# Altium footprint library transistor.PcbLib: 27 footprints (part 1 of 2)
Each footprint in its own frame and in the unit in brackets; x right, y up, seen from the top. Pads: shape width x height; smd on the part's side, far side on the other; paste and mask are expansions set on the pad; w line width, h text height; cw(c..) or ccw(c..) is an arc to the next point about the centre after c.
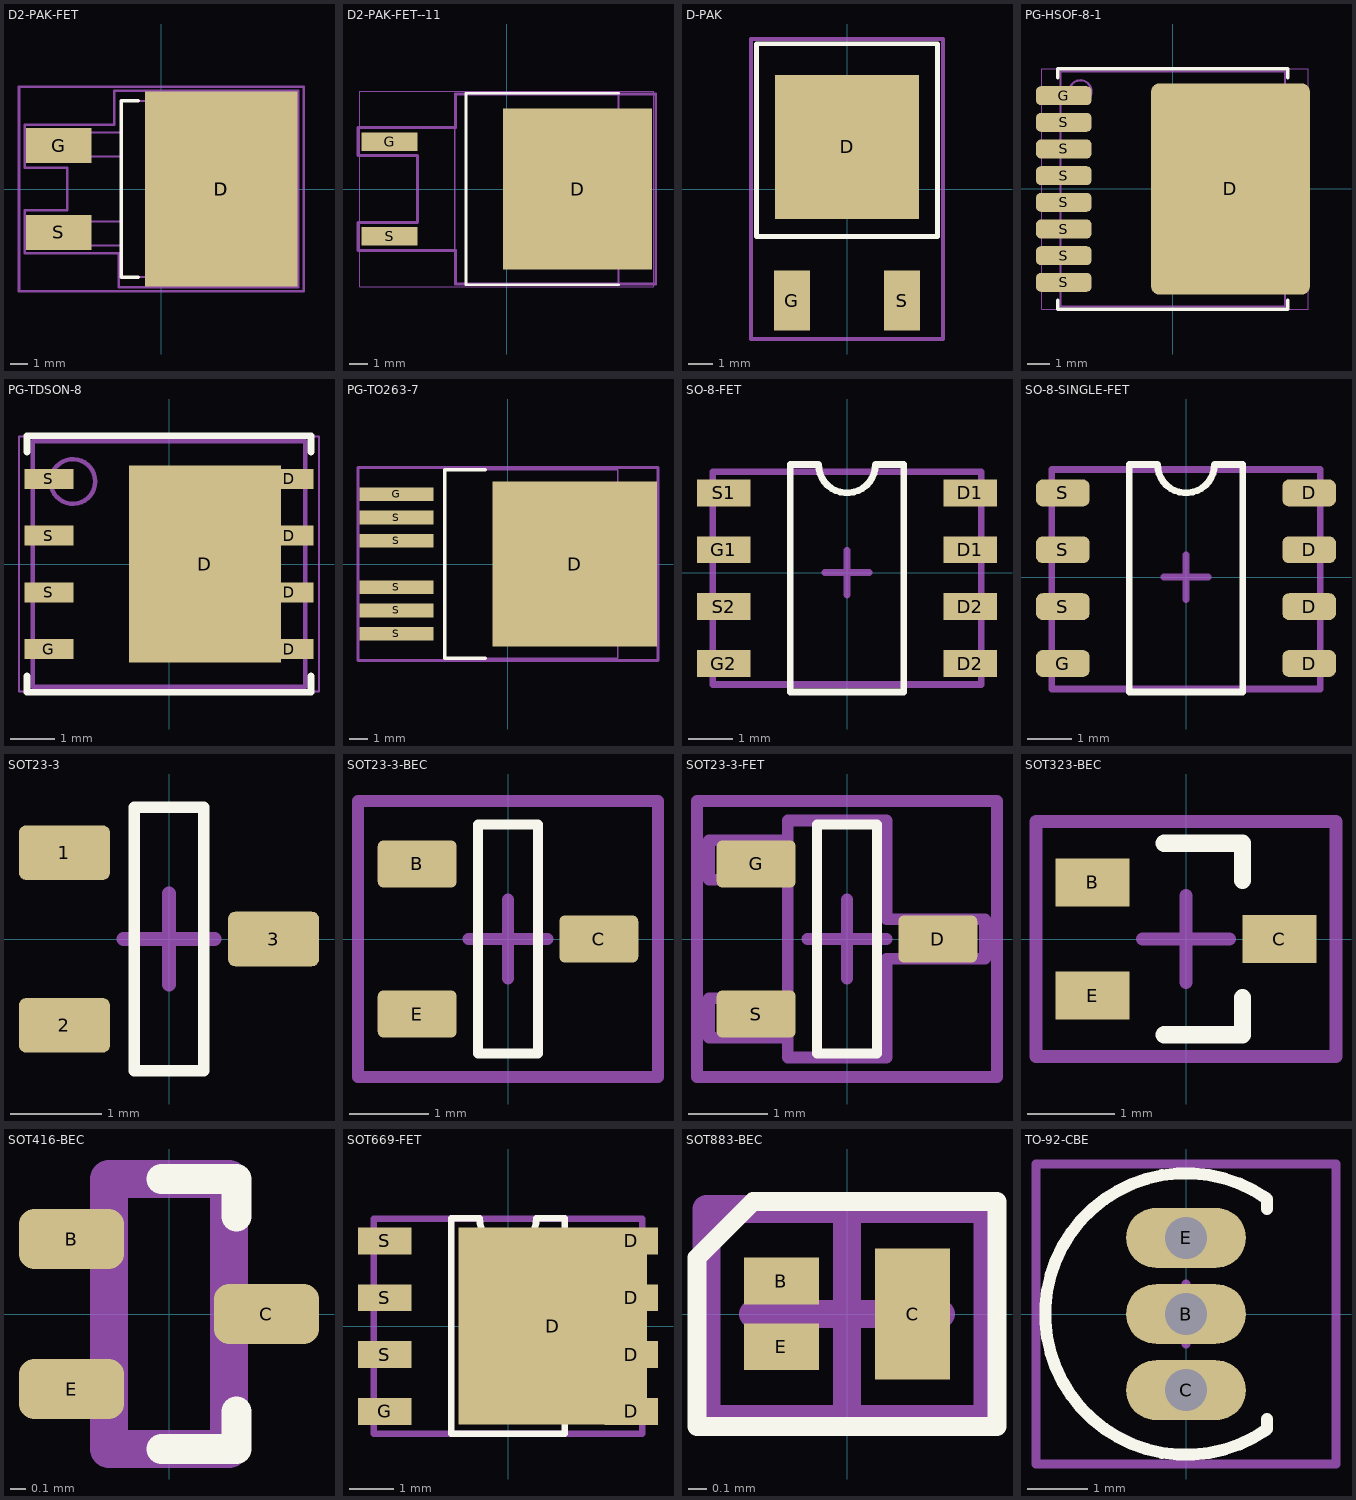
[diagram p0: the footprints below, top view; thin cyan lines are the x and y axes]

## D2-PAK-FET [mm] "D2-PAK, 3-Pads, Body 7,55x8,52mm (max), IPC Medium Density"
height 4.67
pads (4):
  rect 7x7 smd: D(3.5,0)
  rect 8.9x11.43 smd mask-15: D(3.5,0)
  rect 3.81x2.03 smd: G(-6,2.54) S(-6,-2.54)
Top Overlay:
  lines w0.2: -1.35,-5.15 -2.35,-5.15 -2.35,5.15 -1.35,5.15
  text "." at -6.85,4.8 h0.1
Top Solder:
  region: 7.5,5 4.25,5 4.25,0.75 7.5,0.75
  rectangle: -0.5,-5 2.75,-0.75
  region: 7.5,-0.75 4.25,-0.75 4.25,-5 7.5,-5
  rectangle: -0.5,0.75 2.75,5
Top Courtyard:
  lines w0.15: -8,-3.75 -8,-1.25 -5.5,-1.25 -5.5,1.25 -8,1.25 -8,3.75 -2.75,3.75 -2.75,5.75 8,5.75 8,-5.75 -2.5,-5.75 -2.5,-3.75 -8,-3.75
Mechanical 15:
  lines w0.15: -0.5,0 0.5,0 ; 0,-0.5 0,0.5 ; -8.325,-5.975 -8.325,5.975 8.325,5.975 8.325,-5.975 -8.325,-5.975
Mechanical 29:
  lines w0.1: -2.35,-3.3 -6.9,-3.3 -6.9,-3 -6.9,-1.9 -2.35,-1.9 ; -2.35,1.9 -6.9,1.9 -6.9,2.2 -6.9,3.3 -2.35,3.3 ; -2.35,-5.15 6.55,-5.15 6.55,5.15 -2.35,5.15 -2.35,-5.15
  text ".Designator" at -1.25,-0.3 h1
3D body "D2-PAK.step": height 4.82, standoff 0, extent -7.405,-5.15 7.845,5.15

## D2-PAK-FET--11 [mm]
height 4.4
pads (3):
  rect 8x8.65 smd: D(3.8,0)
  rect 3x1 smd: G(-6.3,2.54) S(-6.3,-2.54)
Top Overlay:
  lines w0.15: 6,-5.15 -2.2,-5.15 -2.2,5.15 6,5.15
  text "." at -6.959,3.841 h0.1
Top Courtyard:
  lines w0.05: -7.9,-5.25 -7.9,5.25 7.9,5.25 7.9,-5.25 -7.9,-5.25
  lines w0.15: -8,-3.3 -8,-1.8 -4.8,-1.8 -4.8,1.8 -8,1.8 -8,3.3 -2.75,3.3 -2.75,5.1 8,5.1 8,-5.1 -2.75,-5.1 -2.75,-3.3 -8,-3.3
Mechanical 13:
  lines w0.1: -2.8,-5.15 -2.8,5.15 6,5.15 6,-5.15 -2.8,-5.15
3D body "TO228P970-3N.step": height 4.41, standoff 0, extent -7.2,-5.15 7.7,5.15

## D-PAK [mm]
pads (3):
  rect 6x6 smd: D(0,1.75)
  rect 1.5x2.5 smd: G(-2.3,-4.65) S(2.3,-4.65)
Top Overlay:
  lines w0.2: -3.775,-1.975 0,-1.975 3.775,-1.975 3.775,6.05 -3.775,6.05 -3.775,-1.975
  text "." at -3.6,-4.7 h0.1
Top Solder:
  rectangle: -3,2 -0.25,4.75
  rectangle: 0.25,2 3,4.75
  region: -0.25,1.5 -3,1.5 -3,-1.25 -0.25,-1.25
  region: 0.25,1.5 0.25,-1.25 3,-1.25 3,1.5
Mechanical 15:
  lines w0.15: -0.5,0 0.5,0 ; 0,-0.5 0,0.5 ; -4,-6.25 -4,6.25 4,6.25 4,-6.25 -4,-6.25
3D body "D-PAK.STEP": height 2.3, standoff 0, extent -3.222,-4.875 3.272,4.625

## PG-HSOF-8-1 [mm] "HSOF, 8 Leads, Body 10,43x9,90mm, Pitch 1,20mm, IPC High Density"
height 2.4
pads (9):
  rrect10% 7.15x9.5 smd: D(2.6,0)
  rrect50% 2.5x0.85 smd: G(-4.9,4.2) S(-4.9,-4.2) S(-4.9,-3) S(-4.9,-1.8) S(-4.9,-0.6) S(-4.9,0.6) S(-4.9,1.8) S(-4.9,3)
Top Overlay:
  lines w0.15: -5.175,-5 -5.175,-5.415 5.175,-5.415 5.175,-5 ; -5.175,5 -5.175,5.415 5.175,5.415 5.175,5
  text "." at -5.9,5.415 h0.1
Top Courtyard:
  lines w0.05: -5.9,-5.4 -5.9,5.4 6.1,5.4 6.1,-5.4 -5.9,-5.4
  lines w0.1: -0.5,0 0.5,0 ; 0,-0.5 0,0.5
Mechanical 13:
  circle w0.1: c-4.15,4.39 r0.5
  lines w0.1: -5.05,-5.29 -5.05,5.29 5.05,5.29 5.05,-5.29 -5.05,-5.29
3D body "PG-HSOF-8-1.step": height 2.4, standoff 0, extent -5.06,-5.29 5.06,5.29

## PG-TDSON-8 [mm] "SON, 8-Leads, Body 5,32x5,90mm, Pitch 1,27mm, IPC High Density"
height 1.1
pads (9):
  rect 3.4x4.4 smd: D(0.8,0)
  rect 1.1x0.45 smd: D(2.685,-1.905) D(2.685,-0.635) D(2.685,0.635) D(2.685,1.905) G(-2.685,-1.905) S(-2.685,-0.635) S(-2.685,0.635) S(-2.685,1.905)
Top Overlay:
  lines w0.15: -3.175,-2.505 -3.175,-2.87 3.175,-2.87 3.175,-2.505 ; -3.175,2.505 -3.175,2.87 3.175,2.87 3.175,2.505
  text "." at -3.7,2.6 h0.1
Top Courtyard:
  lines w0.05: -3.355,-2.85 3.355,-2.85 3.355,2.85 -3.355,2.85 -3.355,-2.85
  lines w0.1: -0.5,0 0.5,0 ; 0,-0.5 0,0.5
Mechanical 13:
  circle w0.1: c-2.15,1.845 r0.5
  lines w0.1: -3.05,-2.745 3.05,-2.745 3.05,2.745 -3.05,2.745 -3.05,-2.745
3D body "PG-TDSON-8.step": height 1.1, standoff 0, extent -3.051,-2.745 3.051,2.745

## PG-TO263-7 [mm]
height 4.6
pads (7):
  rect 9x9 smd: D(3.65,0)
  rect 4.05x0.75 smd: G(-6.1,3.81) S(-6.1,-3.81) S(-6.1,-2.54) S(-6.1,-1.27) S(-6.1,1.27) S(-6.1,2.54)
Top Overlay:
  lines w0.2: -1.25,-5.15 -3.45,-5.15 -3.45,5.15 -1.25,5.15
  text "." at -6.5,5 h0.1
Mechanical 13:
  lines w0.1: -3.45,-5.15 -3.45,5.15 6,5.15 6,-5.15 -3.45,-5.15
Mechanical 15:
  lines w0.15: -0.5,0 0.5,0 ; 0,-0.5 0,0.5 ; -8.2,-5.275 -8.2,5.275 8.2,5.275 8.2,-5.275 -8.2,-5.275
3D body "TO228P970-3N.step": height 4.85, standoff 0, extent -7.695,-5.15 7.55,5.15

## SO-8-FET [mm]
pads (8):
  rect 1.2x0.6 smd: D1(2.75,0.508) D1(2.75,1.778) D2(2.75,-2.032) D2(2.75,-0.762) G1(-2.75,0.508) G2(-2.75,-2.032) S1(-2.75,1.778) S2(-2.75,-0.762)
Top Overlay:
  lines w0.15: -1.27,-2.667 -1.27,2.413 -0.635,2.413 ccw(c0,2.413) 0.635,2.413 1.27,2.413 1.27,-2.667 -1.27,-2.667
  text "." at -3.144,2.578 h0.1
Top Courtyard:
  lines w0.15: -0.5,0 0.5,0 ; 0,-0.5 0,0.5 ; -3,-2.5 -3,2.25 3,2.25 3,-2.5 -3,-2.5
3D body "User Library-so8-4.STEP": height 1.76, standoff 0, extent -3.068,-2.572 3.069,2.318

## SO-8-SINGLE-FET [mm]
pads (8):
  rrect50% 1.2x0.6 smd: D(2.75,-1.932) D(2.75,-0.662) D(2.75,0.608) D(2.75,1.878) G(-2.75,-1.932) S(-2.75,-0.662) S(-2.75,0.608) S(-2.75,1.878)
Top Overlay:
  lines w0.15: -1.27,-2.567 1.27,-2.567 1.27,2.513 0.635,2.513 cw(c0,2.513) -0.635,2.513 -1.27,2.513 -1.27,-2.567
  text "." at -3.35,2.678 h0.1
Top Courtyard:
  lines w0.15: -0.5,0 0.5,0 ; 0,-0.5 0,0.5 ; -3,-2.5 3,-2.5 3,2.4 -3,2.4 -3,-2.5
3D body "User Library-so8-4.STEP": height 1.76, standoff 0, extent -3.068,-2.472 3.069,2.418

## SOT23-3 [mm]
pads (3):
  rrect25% 1x0.6 smd: 1(-1.15,0.95) 2(-1.15,-0.95) 3(1.15,0)
Top Overlay:
  lines w0.127: -0.381,-1.45 0.381,-1.45 0.381,1.45 -0.381,1.45 -0.381,-1.45
Mechanical 15:
  lines w0.15: -0.5,0 0.5,0 ; 0,-0.5 0,0.5
3D body "SOT23-3.STEP": height 1.29, standoff -0.01, extent -1.4,-1.45 1.4,1.45

## SOT23-3-BEC [mm] "SOT23, 3 pin"
height 1.003
pads (3):
  rrect25% 1x0.6 smd: B(-1.15,0.95) C(1.15,0) E(-1.15,-0.95)
Top Overlay:
  lines w0.127: -0.381,-1.45 -0.381,1.45 0.381,1.45 0.381,-1.45 -0.381,-1.45
  text "." at -1.5,1.75 h0.1
Mechanical 15:
  lines w0.15: -0.5,0 0.5,0 ; 0,-0.5 0,0.5 ; -1.9,-1.75 -1.9,1.75 1.9,1.75 1.9,-1.75 -1.9,-1.75
3D body "SOT23-3.STEP": height 1.29, standoff -0.01, extent -1.4,-1.45 1.4,1.45

## SOT23-3-FET [mm] "SOT23, 3 pin"
height 1.003
pads (3):
  rrect25% 1x0.6 smd: D(1.15,0) G(-1.15,0.95) S(-1.15,-0.95)
Top Overlay:
  lines w0.127: -0.381,-1.45 0.381,-1.45 0.381,1.45 -0.381,1.45 -0.381,-1.45
  text "." at -1.5,1.75 h0.1
Top Courtyard:
  lines w0.15: -1.75,-1.25 -1.75,-0.75 -0.75,-0.75 -0.75,0.5 -0.75,0.75 -1.75,0.75 -1.75,1.25 -0.75,1.25 -0.75,1.5 0.5,1.5 0.5,0.25 1.75,0.25 1.75,-0.25 0.5,-0.25 0.5,-1.5 -0.75,-1.5 -0.75,-1.25 -1.75,-1.25
Mechanical 15:
  lines w0.15: -0.5,0 0.5,0 ; 0,-0.5 0,0.5 ; -1.9,-1.75 1.9,-1.75 1.9,1.75 -1.9,1.75 -1.9,-1.75
3D body "SOT23-3.STEP": height 1.29, standoff -0.01, extent -1.4,-1.45 1.4,1.45

## SOT323-BEC [mm] "SOT323, 3-Leads, Body 2,00x2,10mm, Pitch 0,65mm, IPC Medium Density"
height 1.1
pads (3):
  rect 0.85x0.55 smd: B(-1.075,0.65) C(1.075,0) E(-1.075,-0.65)
Top Overlay:
  lines w0.2: -0.25,-1.1 0.65,-1.1 0.65,-0.675 ; -0.25,1.1 0.65,1.1 0.65,0.675
  text "." at -1.425,1.45 h0.1
Mechanical 15:
  lines w0.15: -0.5,0 0.5,0 ; 0,-0.5 0,0.5 ; -1.725,-1.35 -1.725,1.35 1.725,1.35 1.725,-1.35 -1.725,-1.35
3D body: height 1.1, standoff 0.1, extent -0.65,-1.1 0.65,1.1

## SOT416-BEC [mm] "SOT416 3-Leads, Body 1,60x1,60mm, Pitch 0,50mm, IPC Medium Density"
height 0.95
pads (3):
  rrect50% 0.7x0.4 smd: B(-0.65,0.5) C(0.65,0) E(-0.65,-0.5)
Top Overlay:
  lines w0.2: -0.05,-0.9 0.45,-0.9 0.45,-0.65 ; -0.05,0.9 0.45,0.9 0.45,0.65
  text "." at -1,1.3 h0.1
Top Courtyard:
  lines w0.254: -0.4,-0.9 0.4,-0.9 0.4,0.9 -0.4,0.9 -0.4,-0.9
3D body "SOT416.step": height 0.95, standoff 0, extent -0.925,-0.9 0.925,0.9

## SOT669-FET [mm]
pads (9):
  rect 4.2x4.4 smd: D(1,0)
  rect 1.2x0.6 smd: D(2.75,-1.905) D(2.75,-0.635) D(2.75,0.635) D(2.75,1.905) G(-2.75,-1.905) S(-2.75,-0.635) S(-2.75,0.635) S(-2.75,1.905)
Top Overlay:
  lines w0.15: -1.27,-2.4 1.27,-2.4 1.27,2.413 0.635,2.413 cw(c0,2.413) -0.635,2.413 -1.27,2.413 -1.27,-2.4
  text "." at -3.144,2.578 h0.1
Top Courtyard:
  lines w0.15: -0.5,0 0.5,0 ; 0,-0.5 0,0.5 ; -3,-2.4 3,-2.4 3,2.4 -3,2.4 -3,-2.4
3D body "User Library-so8-4.STEP": height 1.76, standoff 0, extent -3.068,-2.445 3.068,2.445

## SOT883-BEC [mm] "SOT883, 3-Leads, Body 0,59x0,97mm, Pitch 0,65mm, IPC Medium Density"
height 0.5
pads (3):
  rect 0.4x0.25 smd: B(-0.35,0.175) E(-0.35,-0.175)
  rect 0.4x0.7 smd: C(0.35,0)
Top Overlay:
  lines w0.1: -0.8,-0.6 -0.8,0.3 -0.5,0.6 0.8,0.6 0.8,-0.6 -0.8,-0.6
Mechanical 15:
  lines w0.15: -0.5,0 0.5,0 ; 0,-0.5 0,0.5 ; -0.75,-0.56 0.75,-0.56 0.75,0.56 -0.75,0.56 -0.75,-0.56
3D body "SOT883.step": height 0.5, standoff 0, extent -0.5,-0.31 0.5,0.31

## TO-92-CBE [mm] "TO, Flat Index; 3 In-Line, Axial Leads; Body Dia. 4.6mm; Leads 0.41 x 0.39 mm (max)"
height 4.7
pads (3):
  oval 2x1 hole 0.7: B(0,0) C(0,-1.27) E(0,1.27)
Top Overlay:
  lines w0.2: 1.35,-1.75 1.35,-1.92 cw(c0,0) 1.35,1.92 1.35,1.75
Mechanical 15:
  lines w0.15: -2.5,-2.5 2.5,-2.5 2.5,2.5 -2.5,2.5 -2.5,-2.5 ; -0.5,0 0.5,0 -0.5,0 ; 0,-0.5 0,0.5 0,-0.5
3D body "TO-92.STEP": height 7, standoff -3, extent -2.5,-2.499 1.501,2.499